# Altium footprint library BPW34F.PcbLib: 2 footprints
Each footprint in its own frame and in the unit in brackets; x right, y up, seen from the top. Pads: shape width x height; smd on the part's side, far side on the other; paste and mask are expansions set on the pad; w line width, h text height; cw(c..) or ccw(c..) is an arc to the next point about the centre after c.
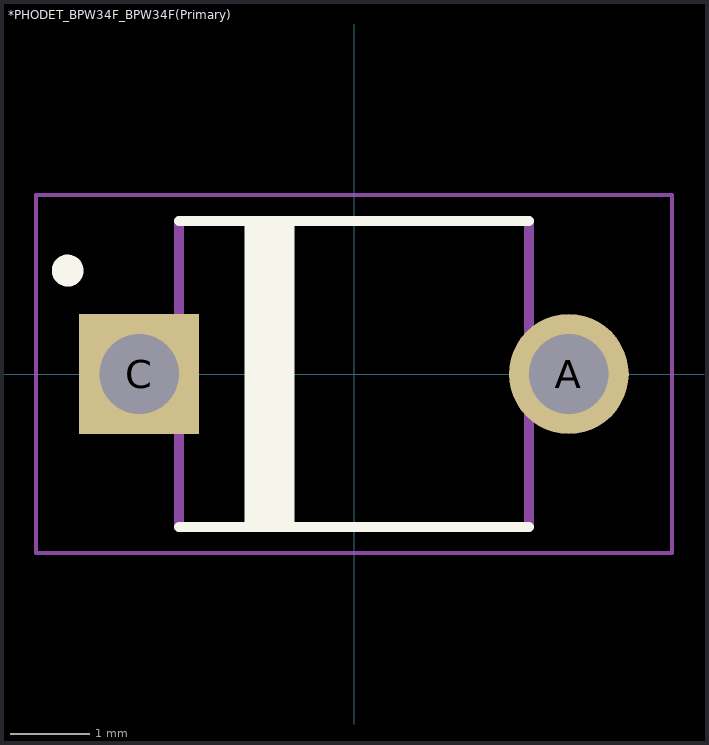
[diagram p0: the footprints below, top view; thin cyan lines are the x and y axes]

## *PHODET_BPW34F_BPW34F(Primary) [mm]
pads (2):
  round 1.508 hole 1: A(2.7,0)
  rect 1.508x1.508 hole 1: C(-2.7,0)
Top Overlay:
  circle w0.2: c-3.6,1.3 r0.1
  region: -1.376,1.925 -0.75,1.925 -0.75,-1.927 -1.376,-1.927
  lines w0.127: -2.2,-1.925 2.2,-1.925 ; -2.2,1.925 2.2,1.925
Mechanical 13:
  lines w0.127: -2.2,-1.925 -2.2,1.925 -2.2,-1.925 ; 2.2,-1.925 2.2,1.925 2.2,-1.925
Mechanical 15:
  lines w0.05: -4,-2.25 -4,2.25 4,2.25 4,-2.25 -4,-2.25

## PCBComponent_1 [mm]